# Altium footprint library SSOP-14_208mil.PcbLib: 1 footprints
Each footprint in its own frame and in the unit in brackets; x right, y up, seen from the top. Pads: shape width x height; smd on the part's side, far side on the other; paste and mask are expansions set on the pad; w line width, h text height; cw(c..) or ccw(c..) is an arc to the next point about the centre after c.
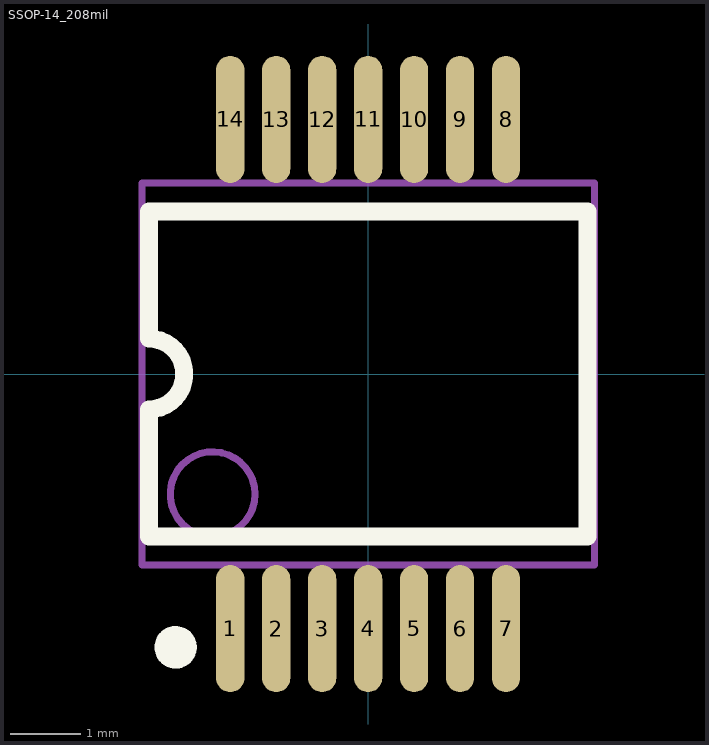
[diagram p0: the footprint, top view; thin cyan lines are the x and y axes]

## SSOP-14_208mil [mm]
pads (14):
  oval 0.4x1.8 smd mask+0.051: 1(-1.95,-3.6) 2(-1.3,-3.6) 3(-0.65,-3.6) 4(0,-3.6) 5(0.65,-3.6) 6(1.3,-3.6) 7(1.95,-3.6) 8(1.95,3.6) 9(1.3,3.6) 10(0.65,3.6) 11(0,3.6) 12(-0.65,3.6) 13(-1.3,3.6) 14(-1.95,3.6)
Top Overlay:
  circle w0.3: c-2.722,-3.865 r0.15
  lines w0.254: -3.1,-2.3 3.1,-2.3 3.1,2.3 -3.1,2.3 -3.1,0.5 cw(c-3.1,0) -3.1,-0.5 -3.1,-2.3
Mechanical 13:
  circle w0.1: c-2.2,-1.7 r0.6
  lines w0.1: -3.2,-2.7 -3.2,2.7 3.2,2.7 3.2,-2.7 -3.2,-2.7